# EAGLE library part DACX311 (library custom)
DAC Single 12 bit SPI 2-5.5V
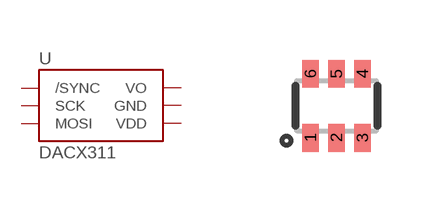
[diagram p58: symbol with the pads of SOT-363; footprint SOT-363]

Designator prefix U

## DACX311  [SOT-363]
1  /SYNC
2  SCK
3  MOSI
4  VDD
5  GND
6  VO

## Footprint SOT-363 (pad centres in mm)
smd 0.42 x 0.7: 1 -0.65,-0.8; 2 0,-0.8; 3 0.65,-0.8; 4 0.65,0.8; 5 0,0.8; 6 -0.65,0.8